# Altium footprint library EIA.QFN.PcbLib: 19 footprints (part 1 of 2)
Each footprint in its own frame and in the unit in brackets; x right, y up, seen from the top. Pads: shape width x height; smd on the part's side, far side on the other; paste and mask are expansions set on the pad; w line width, h text height; cw(c..) or ccw(c..) is an arc to the next point about the centre after c.
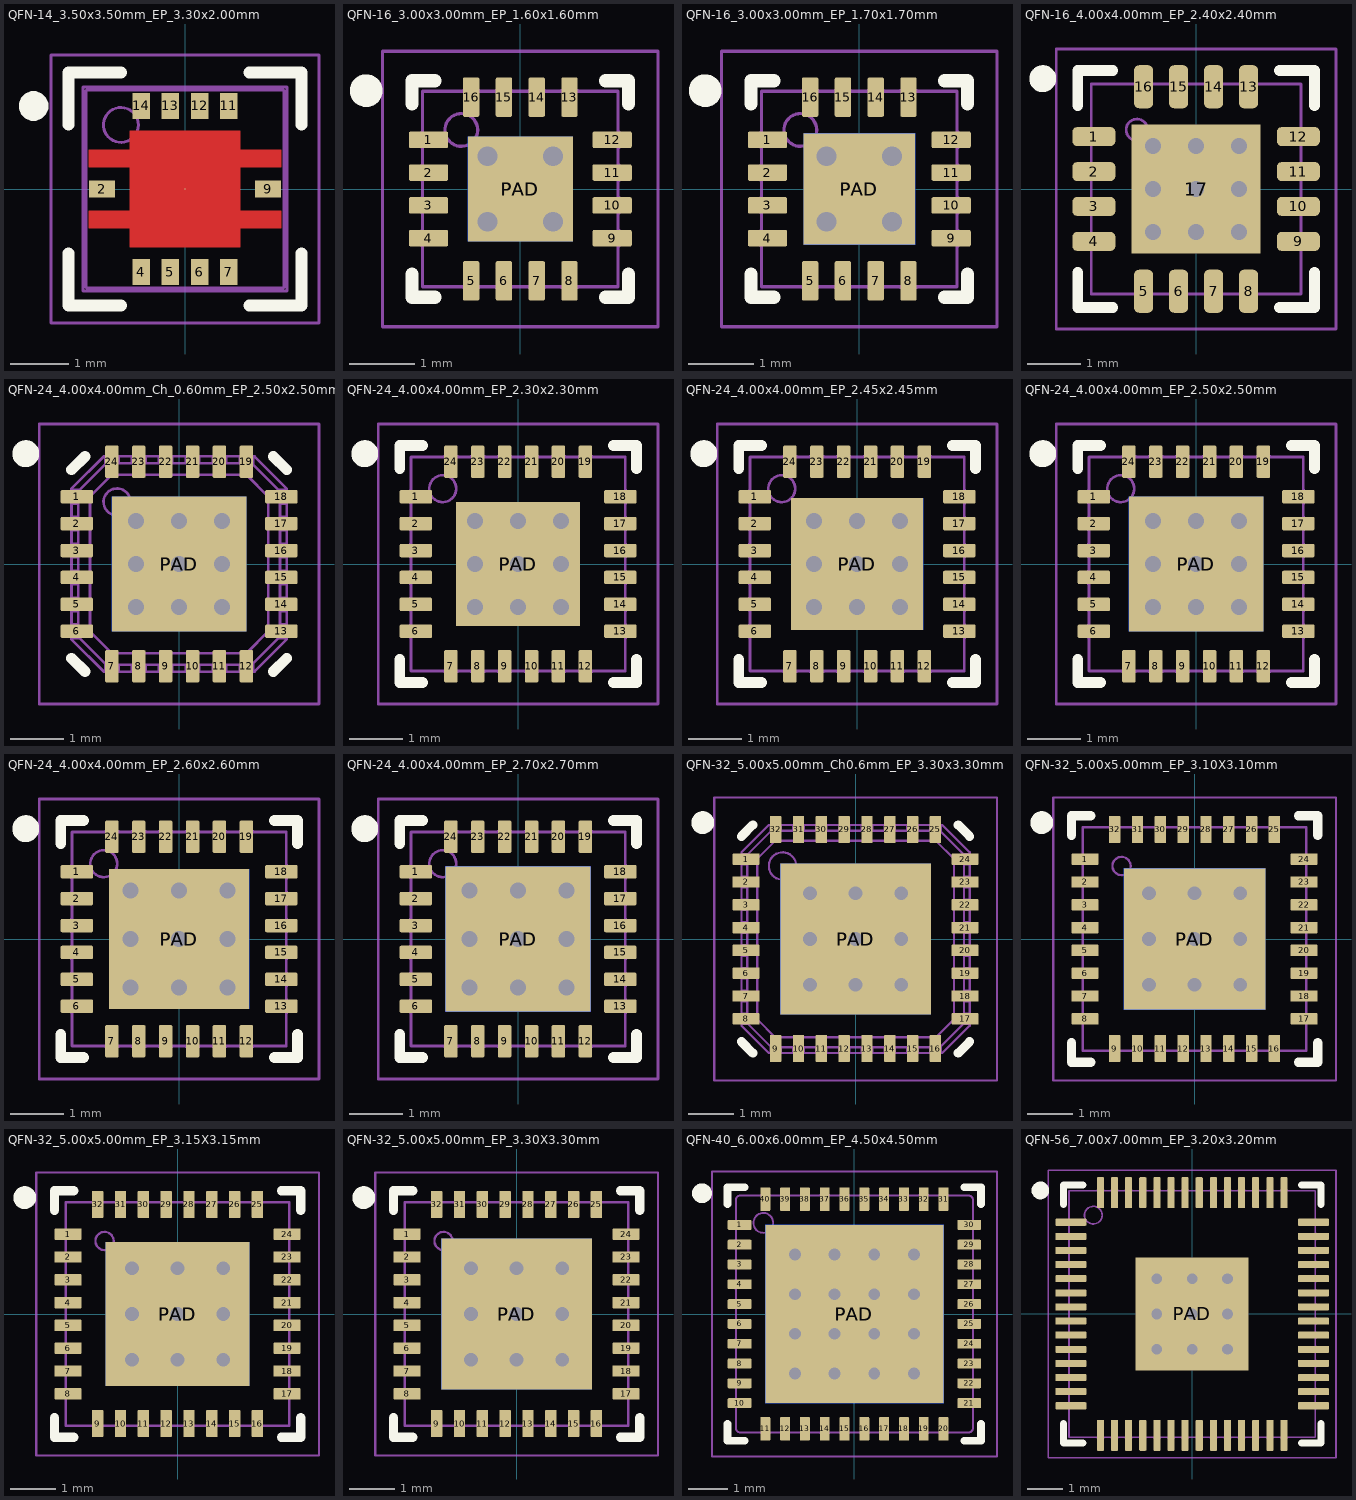
[diagram p0: the footprints below, top view; thin cyan lines are the x and y axes]

## QFN-14_3.50x3.50mm_EP_3.30x2.00mm [mm] "QFN, 14-Leads, Body 3.50x3.50mm, Thermal Pad 3.30x2.00mm"
height 1.64
pads (11):
  rect 0.45x0.3 smd mask+0.1: 2(-1.425,0) 9(1.425,0)
  rect 0.3x0.45 smd mask+0.1: 4(-0.75,-1.425) 5(-0.25,-1.425) 6(0.25,-1.425) 7(0.75,-1.425) 11(0.75,1.425) 12(0.25,1.425) 13(-0.25,1.425) 14(-0.75,1.425)
  round 0.025 smd mask+0.1: PAD(0,0)
Top Layer:
  region: -0.95,-1 -0.95,-0.675 -1.65,-0.675 -1.65,-0.375 -0.95,-0.375 -0.95,0.375 -1.65,0.375 -1.65,0.675 -0.95,0.675 -0.95,1 0.95,1 0.95,0.675 1.65,0.675 1.65,0.375 0.95,0.375 0.95,-0.375 1.65,-0.375 1.65,-0.675 0.95,-0.675 0.95,-1
Top Overlay:
  region: -2.6,1.175 -2.65,1.175 -2.742,1.213 -2.812,1.283 -2.85,1.375 -2.85,1.425 -2.85,1.475 -2.812,1.567 -2.742,1.637 -2.65,1.675 -2.6,1.675 -2.55,1.675 -2.458,1.637 -2.388,1.567 -2.35,1.475 -2.35,1.425 -2.35,1.375 -2.388,1.283 -2.458,1.213 -2.55,1.175
  lines w0.2: -2,-1.1 -2,-2 -1.1,-2 ; -2,1.1 -2,2 -1.1,2 ; 1.1,-2 2,-2 2,-1.1 ; 1.1,2 2,2 2,1.1
Mechanical 1:
  circle w0.05: c-1.1,1.1 r0.3
  lines w0.05: -1.75,-1.75 -1.75,1.75 1.75,1.75 1.75,-1.75 -1.75,-1.75 ; -1.7,-1.675 ccw(c-1.675,-1.675) -1.675,-1.7 1.675,-1.7 ccw(c1.675,-1.675) 1.7,-1.675 1.7,1.675 ccw(c1.675,1.675) 1.675,1.7 -1.675,1.7 ccw(c-1.675,1.675) -1.7,1.675 -1.7,-1.675
Mechanical 15:
  lines w0.05: -2.3,-2.3 -2.3,2.3 2.3,2.3 2.3,-2.3 -2.3,-2.3
  lines w0.1: -0.5,0 0.5,0 ; 0,-0.5 0,0.5
3D body "QFN-14_3.50x3.50mm_EP_3.30x2.00mm.STEP": height 1.64, standoff 0, extent -1.75,-1.75 1.75,1.75

## QFN-16_3.00x3.00mm_EP_1.60x1.60mm [mm] "QFN, 16-Leads, Body 3.00x3.00mm, Pitch 0.50mm, Thermal Pad 1.60x1.60mm, IPC Medium Density"
height 0.85
pads (18):
  rrect20% 0.6x0.25 smd: 1(-1.4,0.75) 2(-1.4,0.25) 3(-1.4,-0.25) 4(-1.4,-0.75) 9(1.4,-0.75) 10(1.4,-0.25) 11(1.4,0.25) 12(1.4,0.75)
  rrect20% 0.25x0.6 smd: 5(-0.75,-1.4) 6(-0.25,-1.4) 7(0.25,-1.4) 8(0.75,-1.4) 13(0.75,1.4) 14(0.25,1.4) 15(-0.25,1.4) 16(-0.75,1.4)
  rect 1.6x1.6 smd: PAD(0,0)
  rect 1.6x1.6 smd far side paste-2539.97: PAD(0,0)
via -0.5,0.5 diameter 0.6 hole 0.3
via -0.5,-0.5 diameter 0.6 hole 0.3
via 0.5,-0.5 diameter 0.6 hole 0.3
via 0.5,0.5 diameter 0.6 hole 0.3
Top Overlay:
  circle w0.25: c-2.35,1.5 r0.125
  lines w0.2: -1.65,-1.3 -1.65,-1.65 -1.3,-1.65 ; -1.65,1.3 -1.65,1.65 -1.3,1.65 ; 1.3,-1.65 1.65,-1.65 1.65,-1.3 ; 1.3,1.65 1.65,1.65 1.65,1.3
Mechanical 1:
  circle w0.05: c-0.9,0.9 r0.25
  lines w0.05: -1.49,-0.875 -1.5,-0.875 -1.5,-0.625 -1.49,-0.625 ; -1.49,-0.375 -1.5,-0.375 -1.5,-0.125 -1.49,-0.125 ; -1.49,0.125 -1.5,0.125 -1.5,0.375 -1.49,0.375 ; -1.49,0.625 -1.5,0.625 -1.5,0.875 -1.49,0.875 ; -0.875,-1.49 -0.875,-1.5 -0.625,-1.5 -0.625,-1.49 ; -0.875,1.49 -0.875,1.5 -0.625,1.5 -0.625,1.49 ; -0.375,-1.49 -0.375,-1.5 -0.125,-1.5 -0.125,-1.49 ; -0.375,1.49 -0.375,1.5 -0.125,1.5 -0.125,1.49 ; 0.125,-1.49 0.125,-1.5 0.375,-1.5 0.375,-1.49 ; 0.125,1.49 0.125,1.5 0.375,1.5 0.375,1.49 ; 0.625,-1.49 0.625,-1.5 0.875,-1.5 0.875,-1.49 ; 0.625,1.49 0.625,1.5 0.875,1.5 0.875,1.49 ; 1.49,-0.875 1.5,-0.875 1.5,-0.625 1.49,-0.625 ; 1.49,-0.375 1.5,-0.375 1.5,-0.125 1.49,-0.125 ; 1.49,0.125 1.5,0.125 1.5,0.375 1.49,0.375 ; 1.49,0.625 1.5,0.625 1.5,0.875 1.49,0.875 ; -1.49,-1.49 1.49,-1.49 1.49,1.49 -1.49,1.49 -1.49,-1.49
Mechanical 15:
  lines w0.05: -2.1,-2.1 -2.1,2.1 2.1,2.1 2.1,-2.1 -2.1,-2.1
  lines w0.1: -0.5,0 0.5,0 ; 0,-0.5 0,0.5
3D body "QFN-16-1EP_3x3mm_P0.5mm_EP1.8x1.8mm.step": height 0.77, standoff 0, extent -1.5,-1.5 1.5,1.5

## QFN-16_3.00x3.00mm_EP_1.70x1.70mm [mm] "QFN, 16-Leads, Body 3.00x3.00mm, Pitch 0.50mm, Thermal Pad 1.70x1.70mm, IPC Medium Density"
height 0.85
pads (18):
  rrect20% 0.6x0.25 smd: 1(-1.4,0.75) 2(-1.4,0.25) 3(-1.4,-0.25) 4(-1.4,-0.75) 9(1.4,-0.75) 10(1.4,-0.25) 11(1.4,0.25) 12(1.4,0.75)
  rrect20% 0.25x0.6 smd: 5(-0.75,-1.4) 6(-0.25,-1.4) 7(0.25,-1.4) 8(0.75,-1.4) 13(0.75,1.4) 14(0.25,1.4) 15(-0.25,1.4) 16(-0.75,1.4)
  rect 1.7x1.7 smd: PAD(0,0)
  rect 1.7x1.7 smd far side paste-2539.97: PAD(0,0)
via 0.5,0.5 diameter 0.6 hole 0.3
via 0.5,-0.5 diameter 0.6 hole 0.3
via -0.5,-0.5 diameter 0.6 hole 0.3
via -0.5,0.5 diameter 0.6 hole 0.3
Top Overlay:
  circle w0.25: c-2.35,1.5 r0.125
  lines w0.2: -1.65,-1.3 -1.65,-1.65 -1.3,-1.65 ; -1.65,1.3 -1.65,1.65 -1.3,1.65 ; 1.3,-1.65 1.65,-1.65 1.65,-1.3 ; 1.3,1.65 1.65,1.65 1.65,1.3
Mechanical 1:
  circle w0.05: c-0.9,0.9 r0.25
  lines w0.05: -1.49,-0.875 -1.5,-0.875 -1.5,-0.625 -1.49,-0.625 ; -1.49,-0.375 -1.5,-0.375 -1.5,-0.125 -1.49,-0.125 ; -1.49,0.125 -1.5,0.125 -1.5,0.375 -1.49,0.375 ; -1.49,0.625 -1.5,0.625 -1.5,0.875 -1.49,0.875 ; -0.875,-1.49 -0.875,-1.5 -0.625,-1.5 -0.625,-1.49 ; -0.875,1.49 -0.875,1.5 -0.625,1.5 -0.625,1.49 ; -0.375,-1.49 -0.375,-1.5 -0.125,-1.5 -0.125,-1.49 ; -0.375,1.49 -0.375,1.5 -0.125,1.5 -0.125,1.49 ; 0.125,-1.49 0.125,-1.5 0.375,-1.5 0.375,-1.49 ; 0.125,1.49 0.125,1.5 0.375,1.5 0.375,1.49 ; 0.625,-1.49 0.625,-1.5 0.875,-1.5 0.875,-1.49 ; 0.625,1.49 0.625,1.5 0.875,1.5 0.875,1.49 ; 1.49,-0.875 1.5,-0.875 1.5,-0.625 1.49,-0.625 ; 1.49,-0.375 1.5,-0.375 1.5,-0.125 1.49,-0.125 ; 1.49,0.125 1.5,0.125 1.5,0.375 1.49,0.375 ; 1.49,0.625 1.5,0.625 1.5,0.875 1.49,0.875 ; -1.49,-1.49 -1.49,1.49 1.49,1.49 1.49,-1.49 -1.49,-1.49
Mechanical 15:
  lines w0.05: -2.1,-2.1 2.1,-2.1 2.1,2.1 -2.1,2.1 -2.1,-2.1
  lines w0.1: -0.5,0 0.5,0 ; 0,-0.5 0,0.5
3D body "QFN-16-1EP_3x3mm_P0.5mm_EP1.8x1.8mm.step": height 0.77, standoff 0, extent -1.5,-1.5 1.5,1.5

## QFN-16_4.00x4.00mm_EP_2.40x2.40mm [mm] "QFN, 16-Leads, Body 4.00x4.00mm, Pitch 0.65mm, Thermal Pad 2.40x2.40mm, IPC Medium Density"
height 1
pads (17):
  rrect50% 0.8x0.35 smd: 1(-1.9,0.975) 2(-1.9,0.325) 3(-1.9,-0.325) 4(-1.9,-0.975) 9(1.9,-0.975) 10(1.9,-0.325) 11(1.9,0.325) 12(1.9,0.975)
  rrect50% 0.35x0.8 smd: 5(-0.975,-1.9) 6(-0.325,-1.9) 7(0.325,-1.9) 8(0.975,-1.9) 13(0.975,1.9) 14(0.325,1.9) 15(-0.325,1.9) 16(-0.975,1.9)
  rect 2.4x2.4 smd: 17(0,0)
via 0,0 diameter 0.6 hole 0.3
via -0.8,0.8 diameter 0.6 hole 0.3
via 0,0.8 diameter 0.6 hole 0.3
via 0.8,0.8 diameter 0.6 hole 0.3
via 0.8,0 diameter 0.6 hole 0.3
via 0,-0.8 diameter 0.6 hole 0.3
via -0.8,-0.8 diameter 0.6 hole 0.3
via 0.8,-0.8 diameter 0.6 hole 0.3
via -0.8,0 diameter 0.6 hole 0.3
Top Overlay:
  circle w0.25: c-2.85,2.05 r0.125
  lines w0.2: -2.2,-1.55 -2.2,-2.2 -1.55,-2.2 ; -2.2,1.55 -2.2,2.2 -1.55,2.2 ; 1.55,-2.2 2.2,-2.2 2.2,-1.55 ; 1.55,2.2 2.2,2.2 2.2,1.55
Mechanical 1:
  circle w0.05: c-1.1,1.1 r0.2
  lines w0.05: -1.95,-1.08 -2,-1.08 -2,-0.87 -1.95,-0.87 ; -1.95,-0.43 -2,-0.43 -2,-0.22 -1.95,-0.22 ; -1.95,0.22 -2,0.22 -2,0.43 -1.95,0.43 ; -1.95,0.87 -2,0.87 -2,1.08 -1.95,1.08 ; -1.08,-1.95 -1.08,-2 -0.87,-2 -0.87,-1.95 ; -1.08,1.95 -1.08,2 -0.87,2 -0.87,1.95 ; -0.43,-1.95 -0.43,-2 -0.22,-2 -0.22,-1.95 ; -0.43,1.95 -0.43,2 -0.22,2 -0.22,1.95 ; 0.22,-1.95 0.22,-2 0.43,-2 0.43,-1.95 ; 0.22,1.95 0.22,2 0.43,2 0.43,1.95 ; 0.87,-1.95 0.87,-2 1.08,-2 1.08,-1.95 ; 0.87,1.95 0.87,2 1.08,2 1.08,1.95 ; 1.95,-1.08 2,-1.08 2,-0.87 1.95,-0.87 ; 1.95,-0.43 2,-0.43 2,-0.22 1.95,-0.22 ; 1.95,0.22 2,0.22 2,0.43 1.95,0.43 ; 1.95,0.87 2,0.87 2,1.08 1.95,1.08 ; -1.95,-1.95 -1.95,1.95 1.95,1.95 1.95,-1.95 -1.95,-1.95
Mechanical 15:
  lines w0.05: -2.6,-2.6 2.6,-2.6 2.6,2.6 -2.6,2.6 -2.6,-2.6
  lines w0.1: -0.5,0 0.5,0 ; 0,-0.5 0,0.5
3D body "QFN-16-1EP_4x4mm_P0.65mm_EP2.1x2.1mm.step": height 1.1, standoff 0, extent -2,-2 2,2

## QFN-24_4.00x4.00mm_Ch_0.60mm_EP_2.50x2.50mm [mm] "QFN, 24-Leads, Body 4.00x4.00mm, Pitch 0.50mm, Thermal Pad 2.50x2.50mm, IPC Medium Density"
height 0.8
pads (26):
  rrect20% 0.6x0.25 smd: 1(-1.9,1.25) 2(-1.9,0.75) 3(-1.9,0.25) 4(-1.9,-0.25) 5(-1.9,-0.75) 6(-1.9,-1.25) 13(1.9,-1.25) 14(1.9,-0.75) 15(1.9,-0.25) 16(1.9,0.25) 17(1.9,0.75) 18(1.9,1.25)
  rrect20% 0.25x0.6 smd: 7(-1.25,-1.9) 8(-0.75,-1.9) 9(-0.25,-1.9) 10(0.25,-1.9) 11(0.75,-1.9) 12(1.25,-1.9) 19(1.25,1.9) 20(0.75,1.9) 21(0.25,1.9) 22(-0.25,1.9) 23(-0.75,1.9) 24(-1.25,1.9)
  rect 2.5x2.5 smd paste-2539.97: PAD(0,0)
  rect 2.5x2.5 smd far side paste-2539.97: PAD(0,0)
via 0,-0.8 diameter 0.6 hole 0.3
via 0.8,-0.8 diameter 0.6 hole 0.3
via 0.8,0 diameter 0.6 hole 0.3
via 0.8,0.8 diameter 0.6 hole 0.3
via 0,0.8 diameter 0.6 hole 0.3
via -0.8,0.8 diameter 0.6 hole 0.3
via -0.8,0 diameter 0.6 hole 0.3
via -0.8,-0.8 diameter 0.6 hole 0.3
via 0,0 diameter 0.6 hole 0.3
Top Overlay:
  circle w0.25: c-2.85,2.05 r0.125
  lines w0.2: -2,-1.75 -1.75,-2 ; -2,1.75 -1.75,2 ; 1.75,-2 2,-1.75 ; 1.75,2 2,1.75
Mechanical 1:
  lines w0.05: -2,-1.375 -1.848,-1.375 ; -2,-1.125 -1.875,-1.125 ; -2,-0.875 -1.875,-0.875 ; -2,-0.625 -1.875,-0.625 ; -2,-0.375 -1.875,-0.375 ; -2,-0.125 -1.875,-0.125 ; -2,0.125 -1.875,0.125 ; -2,0.375 -1.875,0.375 ; -2,0.625 -1.875,0.625 ; -2,0.875 -1.875,0.875 ; -2,1.125 -1.875,1.125 ; -2,1.375 -1.848,1.375 ; -1.375,-2 -1.375,-1.848 ; -1.375,1.848 -1.375,2 ; -1.125,-2 -1.125,-1.875 ; -1.125,1.875 -1.125,2 ; -0.875,-2 -0.875,-1.875 ; -0.875,1.875 -0.875,2 ; -0.625,-2 -0.625,-1.875 ; -0.625,1.875 -0.625,2 ; -0.375,-2 -0.375,-1.875 ; -0.375,1.875 -0.375,2 ; -0.125,-2 -0.125,-1.875 ; -0.125,1.875 -0.125,2 ; 0.125,-2 0.125,-1.875 ; 0.125,1.875 0.125,2 ; 0.375,-2 0.375,-1.875 ; 0.375,1.875 0.375,2 ; 0.625,-2 0.625,-1.875 ; 0.625,1.875 0.625,2 ; 0.875,-2 0.875,-1.875 ; 0.875,1.875 0.875,2 ; 1.125,-2 1.125,-1.875 ; 1.125,1.875 1.125,2 ; 1.375,-2 1.375,-1.848 ; 1.375,1.848 1.375,2 ; 1.848,-1.375 2,-1.375 ; 1.848,1.375 2,1.375 ; 1.875,-1.125 2,-1.125 ; 1.875,-0.875 2,-0.875 ; 1.875,-0.625 2,-0.625 ; 1.875,-0.375 2,-0.375 ; 1.875,-0.125 2,-0.125 ; 1.875,0.125 2,0.125 ; 1.875,0.375 2,0.375 ; 1.875,0.625 2,0.625 ; 1.875,0.875 2,0.875 ; 1.875,1.125 2,1.125 ; -1.875,-1.348 -1.656,-1.257 ; -1.875,-1.348 -1.348,-1.875 ; -1.875,-1.348 -1.875,1.348 ; -1.875,1.348 -1.656,1.257 ; -1.875,1.348 -1.348,1.875 ; -1.656,-1.257 -1.257,-1.656 ; -1.656,-1.257 -1.656,1.257 ; -1.656,1.257 -1.257,1.656 ; -1.348,-1.875 -1.257,-1.656 ; -1.348,-1.875 1.348,-1.875 ; -1.348,1.875 -1.257,1.656 ; -1.348,1.875 1.348,1.875 ; -1.257,-1.656 1.257,-1.656 ; -1.257,1.656 1.257,1.656 ; 1.257,-1.656 1.348,-1.875 ; 1.257,-1.656 1.656,-1.257 ; 1.257,1.656 1.348,1.875 ; 1.257,1.656 1.656,1.257 ; 1.348,-1.875 1.875,-1.348 ; 1.348,1.875 1.875,1.348 ; 1.656,-1.257 1.656,1.257 ; 1.656,-1.257 1.875,-1.348 ; 1.656,1.257 1.875,1.348 ; 1.875,-1.348 1.875,1.348 ; -2,-1.4 -2,1.4 -1.4,2 1.4,2 2,1.4 2,-1.4 1.4,-2 -1.4,-2 -2,-1.4 ; -1.404,1.154 ccw(c-1.154,1.154) -1.341,0.988 ccw(c-1.155,1.152) -1.33,0.977 ccw(c-1.154,1.154) -1.169,0.904 ccw(c-1.154,1.152) -1.154,0.904 ccw(c-1.154,1.154) -0.988,0.966 ccw(c-1.152,1.152) -0.977,0.977 ccw(c-1.154,1.154) -0.93,1.043 ccw(c-1.152,1.153) -0.922,1.059 ccw(c-1.155,1.154) -0.904,1.136 ccw(c-1.152,1.154) -0.904,1.154 ccw(c-1.154,1.154) -0.966,1.319 ccw(c-1.152,1.155) -0.977,1.33 ccw(c-1.154,1.154) -1.138,1.403 ccw(c-1.154,1.156) -1.154,1.404 ccw(c-1.154,1.154) -1.319,1.341 ccw(c-1.155,1.155) -1.33,1.33 ccw(c-1.154,1.154) -1.403,1.169 ccw(c-1.156,1.154) -1.404,1.154
Mechanical 15:
  lines w0.05: -2.6,-2.6 2.6,-2.6 2.6,2.6 -2.6,2.6 -2.6,-2.6
  lines w0.1: -0.5,0 0.5,0 ; 0,-0.5 0,0.5
3D body "QFN-24_4.00x4.00mm_Ch_0.60mm_EP_2.50x2.50mm.STEP": height 0.85, standoff 0, extent -2,-2 2,2

## QFN-24_4.00x4.00mm_EP_2.30x2.30mm [mm] "QFN, 24-Leads, Body 4.00x4.00mm, Pitch 0.50mm, Thermal Pad 2.30x2.30mm, IPC Medium Density"
height 0.8
pads (26):
  rrect20% 0.6x0.25 smd: 1(-1.9,1.25) 2(-1.9,0.75) 3(-1.9,0.25) 4(-1.9,-0.25) 5(-1.9,-0.75) 6(-1.9,-1.25) 13(1.9,-1.25) 14(1.9,-0.75) 15(1.9,-0.25) 16(1.9,0.25) 17(1.9,0.75) 18(1.9,1.25)
  rrect20% 0.25x0.6 smd: 7(-1.25,-1.9) 8(-0.75,-1.9) 9(-0.25,-1.9) 10(0.25,-1.9) 11(0.75,-1.9) 12(1.25,-1.9) 19(1.25,1.9) 20(0.75,1.9) 21(0.25,1.9) 22(-0.25,1.9) 23(-0.75,1.9) 24(-1.25,1.9)
  rect 2.3x2.3 smd: PAD(0,0)
  rect 2.3x2.3 smd far side paste-2539.97: PAD(0,0)
via -0.8,0 diameter 0.6 hole 0.3
via 0.8,-0.8 diameter 0.6 hole 0.3
via -0.8,-0.8 diameter 0.6 hole 0.3
via 0,-0.8 diameter 0.6 hole 0.3
via 0.8,0 diameter 0.6 hole 0.3
via 0.8,0.8 diameter 0.6 hole 0.3
via 0,0.8 diameter 0.6 hole 0.3
via -0.8,0.8 diameter 0.6 hole 0.3
via 0,0 diameter 0.6 hole 0.3
Top Overlay:
  circle w0.25: c-2.85,2.05 r0.125
  lines w0.2: -2.2,-1.775 -2.2,-2.2 -1.775,-2.2 ; -2.2,1.775 -2.2,2.2 -1.775,2.2 ; 1.775,-2.2 2.2,-2.2 2.2,-1.775 ; 1.775,2.2 2.2,2.2 2.2,1.775
Mechanical 1:
  circle w0.05: c-1.4,1.4 r0.25
  lines w0.05: -1.99,-1.375 -2,-1.375 -2,-1.125 -1.99,-1.125 ; -1.99,-0.875 -2,-0.875 -2,-0.625 -1.99,-0.625 ; -1.99,-0.375 -2,-0.375 -2,-0.125 -1.99,-0.125 ; -1.99,0.125 -2,0.125 -2,0.375 -1.99,0.375 ; -1.99,0.625 -2,0.625 -2,0.875 -1.99,0.875 ; -1.99,1.125 -2,1.125 -2,1.375 -1.99,1.375 ; -1.375,-1.99 -1.375,-2 -1.125,-2 -1.125,-1.99 ; -1.375,1.99 -1.375,2 -1.125,2 -1.125,1.99 ; -0.875,-1.99 -0.875,-2 -0.625,-2 -0.625,-1.99 ; -0.875,1.99 -0.875,2 -0.625,2 -0.625,1.99 ; -0.375,-1.99 -0.375,-2 -0.125,-2 -0.125,-1.99 ; -0.375,1.99 -0.375,2 -0.125,2 -0.125,1.99 ; 0.125,-1.99 0.125,-2 0.375,-2 0.375,-1.99 ; 0.125,1.99 0.125,2 0.375,2 0.375,1.99 ; 0.625,-1.99 0.625,-2 0.875,-2 0.875,-1.99 ; 0.625,1.99 0.625,2 0.875,2 0.875,1.99 ; 1.125,-1.99 1.125,-2 1.375,-2 1.375,-1.99 ; 1.125,1.99 1.125,2 1.375,2 1.375,1.99 ; 1.99,-1.375 2,-1.375 2,-1.125 1.99,-1.125 ; 1.99,-0.875 2,-0.875 2,-0.625 1.99,-0.625 ; 1.99,-0.375 2,-0.375 2,-0.125 1.99,-0.125 ; 1.99,0.125 2,0.125 2,0.375 1.99,0.375 ; 1.99,0.625 2,0.625 2,0.875 1.99,0.875 ; 1.99,1.125 2,1.125 2,1.375 1.99,1.375 ; -1.99,-1.99 1.99,-1.99 1.99,1.99 -1.99,1.99 -1.99,-1.99
Mechanical 15:
  lines w0.05: -2.6,-2.6 2.6,-2.6 2.6,2.6 -2.6,2.6 -2.6,-2.6
  lines w0.1: -0.5,0 0.5,0 ; 0,-0.5 0,0.5
3D body "QFN-24-1EP_4x4mm_P0.5mm_EP2.6x2.6mm.step": height 0.77, standoff 0, extent -2,-2 2,2

## QFN-24_4.00x4.00mm_EP_2.45x2.45mm [mm] "QFN, 24-Leads, Body 4.00x4.00mm, Pitch 0.50mm, Thermal Pad 2.45x2.45mm, IPC Medium Density"
height 0.8
pads (26):
  rrect20% 0.6x0.25 smd: 1(-1.9,1.25) 2(-1.9,0.75) 3(-1.9,0.25) 4(-1.9,-0.25) 5(-1.9,-0.75) 6(-1.9,-1.25) 13(1.9,-1.25) 14(1.9,-0.75) 15(1.9,-0.25) 16(1.9,0.25) 17(1.9,0.75) 18(1.9,1.25)
  rrect20% 0.25x0.6 smd: 7(-1.25,-1.9) 8(-0.75,-1.9) 9(-0.25,-1.9) 10(0.25,-1.9) 11(0.75,-1.9) 12(1.25,-1.9) 19(1.25,1.9) 20(0.75,1.9) 21(0.25,1.9) 22(-0.25,1.9) 23(-0.75,1.9) 24(-1.25,1.9)
  rect 2.45x2.45 smd: PAD(0,0)
  rect 2.45x2.45 smd far side paste-2539.97: PAD(0,0)
via -0.8,0 diameter 0.6 hole 0.3
via 0.8,-0.8 diameter 0.6 hole 0.3
via -0.8,-0.8 diameter 0.6 hole 0.3
via 0,-0.8 diameter 0.6 hole 0.3
via 0.8,0 diameter 0.6 hole 0.3
via 0.8,0.8 diameter 0.6 hole 0.3
via 0,0.8 diameter 0.6 hole 0.3
via -0.8,0.8 diameter 0.6 hole 0.3
via 0,0 diameter 0.6 hole 0.3
Top Overlay:
  circle w0.25: c-2.85,2.05 r0.125
  lines w0.2: -2.2,-1.775 -2.2,-2.2 -1.775,-2.2 ; -2.2,1.775 -2.2,2.2 -1.775,2.2 ; 1.775,-2.2 2.2,-2.2 2.2,-1.775 ; 1.775,2.2 2.2,2.2 2.2,1.775
Mechanical 1:
  circle w0.05: c-1.4,1.4 r0.25
  lines w0.05: -1.99,-1.375 -2,-1.375 -2,-1.125 -1.99,-1.125 ; -1.99,-0.875 -2,-0.875 -2,-0.625 -1.99,-0.625 ; -1.99,-0.375 -2,-0.375 -2,-0.125 -1.99,-0.125 ; -1.99,0.125 -2,0.125 -2,0.375 -1.99,0.375 ; -1.99,0.625 -2,0.625 -2,0.875 -1.99,0.875 ; -1.99,1.125 -2,1.125 -2,1.375 -1.99,1.375 ; -1.375,-1.99 -1.375,-2 -1.125,-2 -1.125,-1.99 ; -1.375,1.99 -1.375,2 -1.125,2 -1.125,1.99 ; -0.875,-1.99 -0.875,-2 -0.625,-2 -0.625,-1.99 ; -0.875,1.99 -0.875,2 -0.625,2 -0.625,1.99 ; -0.375,-1.99 -0.375,-2 -0.125,-2 -0.125,-1.99 ; -0.375,1.99 -0.375,2 -0.125,2 -0.125,1.99 ; 0.125,-1.99 0.125,-2 0.375,-2 0.375,-1.99 ; 0.125,1.99 0.125,2 0.375,2 0.375,1.99 ; 0.625,-1.99 0.625,-2 0.875,-2 0.875,-1.99 ; 0.625,1.99 0.625,2 0.875,2 0.875,1.99 ; 1.125,-1.99 1.125,-2 1.375,-2 1.375,-1.99 ; 1.125,1.99 1.125,2 1.375,2 1.375,1.99 ; 1.99,-1.375 2,-1.375 2,-1.125 1.99,-1.125 ; 1.99,-0.875 2,-0.875 2,-0.625 1.99,-0.625 ; 1.99,-0.375 2,-0.375 2,-0.125 1.99,-0.125 ; 1.99,0.125 2,0.125 2,0.375 1.99,0.375 ; 1.99,0.625 2,0.625 2,0.875 1.99,0.875 ; 1.99,1.125 2,1.125 2,1.375 1.99,1.375 ; -1.99,-1.99 1.99,-1.99 1.99,1.99 -1.99,1.99 -1.99,-1.99
Mechanical 15:
  lines w0.05: -2.6,-2.6 2.6,-2.6 2.6,2.6 -2.6,2.6 -2.6,-2.6
  lines w0.1: -0.5,0 0.5,0 ; 0,-0.5 0,0.5
3D body "QFN-24-1EP_4x4mm_P0.5mm_EP2.6x2.6mm.step": height 0.77, standoff 0, extent -2,-2 2,2

## QFN-24_4.00x4.00mm_EP_2.50x2.50mm [mm] "QFN, 24-Leads, Body 4.00x4.00mm, Pitch 0.50mm, Thermal Pad 2.50x2.50mm, IPC Medium Density"
height 0.8
pads (26):
  rrect20% 0.6x0.25 smd: 1(-1.9,1.25) 2(-1.9,0.75) 3(-1.9,0.25) 4(-1.9,-0.25) 5(-1.9,-0.75) 6(-1.9,-1.25) 13(1.9,-1.25) 14(1.9,-0.75) 15(1.9,-0.25) 16(1.9,0.25) 17(1.9,0.75) 18(1.9,1.25)
  rrect20% 0.25x0.6 smd: 7(-1.25,-1.9) 8(-0.75,-1.9) 9(-0.25,-1.9) 10(0.25,-1.9) 11(0.75,-1.9) 12(1.25,-1.9) 19(1.25,1.9) 20(0.75,1.9) 21(0.25,1.9) 22(-0.25,1.9) 23(-0.75,1.9) 24(-1.25,1.9)
  rect 2.5x2.5 smd paste-2539.97: PAD(0,0)
  rect 2.5x2.5 smd far side paste-2539.97: PAD(0,0)
via 0,0 diameter 0.6 hole 0.3
via -0.8,-0.8 diameter 0.6 hole 0.3
via -0.8,0 diameter 0.6 hole 0.3
via -0.8,0.8 diameter 0.6 hole 0.3
via 0,0.8 diameter 0.6 hole 0.3
via 0.8,0.8 diameter 0.6 hole 0.3
via 0.8,0 diameter 0.6 hole 0.3
via 0.8,-0.8 diameter 0.6 hole 0.3
via 0,-0.8 diameter 0.6 hole 0.3
Top Overlay:
  circle w0.25: c-2.85,2.05 r0.125
  lines w0.2: -2.2,-1.775 -2.2,-2.2 -1.775,-2.2 ; -2.2,1.775 -2.2,2.2 -1.775,2.2 ; 1.775,-2.2 2.2,-2.2 2.2,-1.775 ; 1.775,2.2 2.2,2.2 2.2,1.775
Mechanical 1:
  circle w0.05: c-1.4,1.4 r0.25
  lines w0.05: -1.99,-1.375 -2,-1.375 -2,-1.125 -1.99,-1.125 ; -1.99,-0.875 -2,-0.875 -2,-0.625 -1.99,-0.625 ; -1.99,-0.375 -2,-0.375 -2,-0.125 -1.99,-0.125 ; -1.99,0.125 -2,0.125 -2,0.375 -1.99,0.375 ; -1.99,0.625 -2,0.625 -2,0.875 -1.99,0.875 ; -1.99,1.125 -2,1.125 -2,1.375 -1.99,1.375 ; -1.375,-1.99 -1.375,-2 -1.125,-2 -1.125,-1.99 ; -1.375,1.99 -1.375,2 -1.125,2 -1.125,1.99 ; -0.875,-1.99 -0.875,-2 -0.625,-2 -0.625,-1.99 ; -0.875,1.99 -0.875,2 -0.625,2 -0.625,1.99 ; -0.375,-1.99 -0.375,-2 -0.125,-2 -0.125,-1.99 ; -0.375,1.99 -0.375,2 -0.125,2 -0.125,1.99 ; 0.125,-1.99 0.125,-2 0.375,-2 0.375,-1.99 ; 0.125,1.99 0.125,2 0.375,2 0.375,1.99 ; 0.625,-1.99 0.625,-2 0.875,-2 0.875,-1.99 ; 0.625,1.99 0.625,2 0.875,2 0.875,1.99 ; 1.125,-1.99 1.125,-2 1.375,-2 1.375,-1.99 ; 1.125,1.99 1.125,2 1.375,2 1.375,1.99 ; 1.99,-1.375 2,-1.375 2,-1.125 1.99,-1.125 ; 1.99,-0.875 2,-0.875 2,-0.625 1.99,-0.625 ; 1.99,-0.375 2,-0.375 2,-0.125 1.99,-0.125 ; 1.99,0.125 2,0.125 2,0.375 1.99,0.375 ; 1.99,0.625 2,0.625 2,0.875 1.99,0.875 ; 1.99,1.125 2,1.125 2,1.375 1.99,1.375 ; -1.99,-1.99 1.99,-1.99 1.99,1.99 -1.99,1.99 -1.99,-1.99
Mechanical 15:
  lines w0.05: -2.6,-2.6 -2.6,2.6 2.6,2.6 2.6,-2.6 -2.6,-2.6
  lines w0.1: -0.5,0 0.5,0 ; 0,-0.5 0,0.5
3D body "QFN-24-1EP_4x4mm_P0.5mm_EP2.6x2.6mm.step": height 0.77, standoff 0, extent -2,-2 2,2

## QFN-24_4.00x4.00mm_EP_2.60x2.60mm [mm] "QFN, 24-Leads, Body 4.00x4.00mm, Pitch 0.50mm, Thermal Pad 2.60x2.60mm, IPC Medium Density"
height 0.95
pads (26):
  rrect20% 0.6x0.25 smd: 1(-1.9,1.25) 2(-1.9,0.75) 3(-1.9,0.25) 4(-1.9,-0.25) 5(-1.9,-0.75) 6(-1.9,-1.25) 13(1.9,-1.25) 14(1.9,-0.75) 15(1.9,-0.25) 16(1.9,0.25) 17(1.9,0.75) 18(1.9,1.25)
  rrect20% 0.25x0.6 smd: 7(-1.25,-1.9) 8(-0.75,-1.9) 9(-0.25,-1.9) 10(0.25,-1.9) 11(0.75,-1.9) 12(1.25,-1.9) 19(1.25,1.9) 20(0.75,1.9) 21(0.25,1.9) 22(-0.25,1.9) 23(-0.75,1.9) 24(-1.25,1.9)
  rect 2.6x2.6 smd paste-2539.97: PAD(0,0)
  rect 2.6x2.6 smd far side paste-2539.97: PAD(0,0)
via 0,0 diameter 0.6 hole 0.3
via -0.9,0 diameter 0.6 hole 0.3
via -0.9,0.9 diameter 0.6 hole 0.3
via 0,0.9 diameter 0.6 hole 0.3
via 0.9,0.9 diameter 0.6 hole 0.3
via 0.9,0 diameter 0.6 hole 0.3
via 0.9,-0.9 diameter 0.6 hole 0.3
via 0,-0.9 diameter 0.6 hole 0.3
via -0.9,-0.9 diameter 0.6 hole 0.3
Top Overlay:
  circle w0.25: c-2.85,2.05 r0.125
  lines w0.2: -2.2,-1.775 -2.2,-2.2 -1.775,-2.2 ; -2.2,1.775 -2.2,2.2 -1.775,2.2 ; 1.775,-2.2 2.2,-2.2 2.2,-1.775 ; 1.775,2.2 2.2,2.2 2.2,1.775
Mechanical 1:
  circle w0.05: c-1.4,1.4 r0.25
  lines w0.05: -1.99,-1.375 -2,-1.375 -2,-1.125 -1.99,-1.125 ; -1.99,-0.875 -2,-0.875 -2,-0.625 -1.99,-0.625 ; -1.99,-0.375 -2,-0.375 -2,-0.125 -1.99,-0.125 ; -1.99,0.125 -2,0.125 -2,0.375 -1.99,0.375 ; -1.99,0.625 -2,0.625 -2,0.875 -1.99,0.875 ; -1.99,1.125 -2,1.125 -2,1.375 -1.99,1.375 ; -1.375,-1.99 -1.375,-2 -1.125,-2 -1.125,-1.99 ; -1.375,1.99 -1.375,2 -1.125,2 -1.125,1.99 ; -0.875,-1.99 -0.875,-2 -0.625,-2 -0.625,-1.99 ; -0.875,1.99 -0.875,2 -0.625,2 -0.625,1.99 ; -0.375,-1.99 -0.375,-2 -0.125,-2 -0.125,-1.99 ; -0.375,1.99 -0.375,2 -0.125,2 -0.125,1.99 ; 0.125,-1.99 0.125,-2 0.375,-2 0.375,-1.99 ; 0.125,1.99 0.125,2 0.375,2 0.375,1.99 ; 0.625,-1.99 0.625,-2 0.875,-2 0.875,-1.99 ; 0.625,1.99 0.625,2 0.875,2 0.875,1.99 ; 1.125,-1.99 1.125,-2 1.375,-2 1.375,-1.99 ; 1.125,1.99 1.125,2 1.375,2 1.375,1.99 ; 1.99,-1.375 2,-1.375 2,-1.125 1.99,-1.125 ; 1.99,-0.875 2,-0.875 2,-0.625 1.99,-0.625 ; 1.99,-0.375 2,-0.375 2,-0.125 1.99,-0.125 ; 1.99,0.125 2,0.125 2,0.375 1.99,0.375 ; 1.99,0.625 2,0.625 2,0.875 1.99,0.875 ; 1.99,1.125 2,1.125 2,1.375 1.99,1.375 ; -1.99,-1.99 -1.99,1.99 1.99,1.99 1.99,-1.99 -1.99,-1.99
Mechanical 15:
  lines w0.05: -2.6,-2.6 2.6,-2.6 2.6,2.6 -2.6,2.6 -2.6,-2.6
  lines w0.1: -0.5,0 0.5,0 ; 0,-0.5 0,0.5
3D body "QFN-24-1EP_4x4mm_P0.5mm_EP2.7x2.7mm.step": height 1.1, standoff 0, extent -2,-2 2,2

## QFN-24_4.00x4.00mm_EP_2.70x2.70mm [mm] "QFN, 24-Leads, Body 4.00x4.00mm, Pitch 0.50mm, Thermal Pad 2.70x2.70mm, IPC Medium Density"
height 0.95
pads (26):
  rrect20% 0.6x0.25 smd: 1(-1.9,1.25) 2(-1.9,0.75) 3(-1.9,0.25) 4(-1.9,-0.25) 5(-1.9,-0.75) 6(-1.9,-1.25) 13(1.9,-1.25) 14(1.9,-0.75) 15(1.9,-0.25) 16(1.9,0.25) 17(1.9,0.75) 18(1.9,1.25)
  rrect20% 0.25x0.6 smd: 7(-1.25,-1.9) 8(-0.75,-1.9) 9(-0.25,-1.9) 10(0.25,-1.9) 11(0.75,-1.9) 12(1.25,-1.9) 19(1.25,1.9) 20(0.75,1.9) 21(0.25,1.9) 22(-0.25,1.9) 23(-0.75,1.9) 24(-1.25,1.9)
  rect 2.7x2.7 smd paste-2539.97: PAD(0,0)
  rect 2.7x2.7 smd far side paste-2539.97: PAD(0,0)
via -0.9,-0.9 diameter 0.6 hole 0.3
via 0,-0.9 diameter 0.6 hole 0.3
via 0.9,-0.9 diameter 0.6 hole 0.3
via 0.9,0 diameter 0.6 hole 0.3
via 0.9,0.9 diameter 0.6 hole 0.3
via 0,0.9 diameter 0.6 hole 0.3
via -0.9,0.9 diameter 0.6 hole 0.3
via -0.9,0 diameter 0.6 hole 0.3
via 0,0 diameter 0.6 hole 0.3
Top Overlay:
  circle w0.25: c-2.85,2.05 r0.125
  lines w0.2: -2.2,-1.775 -2.2,-2.2 -1.775,-2.2 ; -2.2,1.775 -2.2,2.2 -1.775,2.2 ; 1.775,-2.2 2.2,-2.2 2.2,-1.775 ; 1.775,2.2 2.2,2.2 2.2,1.775
Mechanical 1:
  circle w0.05: c-1.4,1.4 r0.25
  lines w0.05: -1.99,-1.375 -2,-1.375 -2,-1.125 -1.99,-1.125 ; -1.99,-0.875 -2,-0.875 -2,-0.625 -1.99,-0.625 ; -1.99,-0.375 -2,-0.375 -2,-0.125 -1.99,-0.125 ; -1.99,0.125 -2,0.125 -2,0.375 -1.99,0.375 ; -1.99,0.625 -2,0.625 -2,0.875 -1.99,0.875 ; -1.99,1.125 -2,1.125 -2,1.375 -1.99,1.375 ; -1.375,-1.99 -1.375,-2 -1.125,-2 -1.125,-1.99 ; -1.375,1.99 -1.375,2 -1.125,2 -1.125,1.99 ; -0.875,-1.99 -0.875,-2 -0.625,-2 -0.625,-1.99 ; -0.875,1.99 -0.875,2 -0.625,2 -0.625,1.99 ; -0.375,-1.99 -0.375,-2 -0.125,-2 -0.125,-1.99 ; -0.375,1.99 -0.375,2 -0.125,2 -0.125,1.99 ; 0.125,-1.99 0.125,-2 0.375,-2 0.375,-1.99 ; 0.125,1.99 0.125,2 0.375,2 0.375,1.99 ; 0.625,-1.99 0.625,-2 0.875,-2 0.875,-1.99 ; 0.625,1.99 0.625,2 0.875,2 0.875,1.99 ; 1.125,-1.99 1.125,-2 1.375,-2 1.375,-1.99 ; 1.125,1.99 1.125,2 1.375,2 1.375,1.99 ; 1.99,-1.375 2,-1.375 2,-1.125 1.99,-1.125 ; 1.99,-0.875 2,-0.875 2,-0.625 1.99,-0.625 ; 1.99,-0.375 2,-0.375 2,-0.125 1.99,-0.125 ; 1.99,0.125 2,0.125 2,0.375 1.99,0.375 ; 1.99,0.625 2,0.625 2,0.875 1.99,0.875 ; 1.99,1.125 2,1.125 2,1.375 1.99,1.375 ; -1.99,-1.99 1.99,-1.99 1.99,1.99 -1.99,1.99 -1.99,-1.99
Mechanical 15:
  lines w0.05: -2.6,-2.6 -2.6,2.6 2.6,2.6 2.6,-2.6 -2.6,-2.6
  lines w0.1: -0.5,0 0.5,0 ; 0,-0.5 0,0.5
3D body "QFN-24-1EP_4x4mm_P0.5mm_EP2.7x2.7mm.step": height 1.1, standoff 0, extent -2,-2 2,2

## QFN-32_5.00x5.00mm_Ch0.6mm_EP_3.30x3.30mm [mm] "QFN, 32-Leads, Body 5.00x5.00mm, Pitch 0.50mm, Thermal Pad 3.30x3.30mm, IPC Medium Density"
height 1
pads (34):
  rrect20% 0.6x0.25 smd: 1(-2.4,1.75) 2(-2.4,1.25) 3(-2.4,0.75) 4(-2.4,0.25) 5(-2.4,-0.25) 6(-2.4,-0.75) 7(-2.4,-1.25) 8(-2.4,-1.75) 17(2.4,-1.75) 18(2.4,-1.25) 19(2.4,-0.75) 20(2.4,-0.25) 21(2.4,0.25) 22(2.4,0.75) 23(2.4,1.25) 24(2.4,1.75)
  rrect20% 0.25x0.6 smd: 9(-1.75,-2.4) 10(-1.25,-2.4) 11(-0.75,-2.4) 12(-0.25,-2.4) 13(0.25,-2.4) 14(0.75,-2.4) 15(1.25,-2.4) 16(1.75,-2.4) 25(1.75,2.4) 26(1.25,2.4) 27(0.75,2.4) 28(0.25,2.4) 29(-0.25,2.4) 30(-0.75,2.4) 31(-1.25,2.4) 32(-1.75,2.4)
  rect 3.3x3.3 smd: PAD(0,0)
  rect 3.3x3.3 smd far side paste-2539.97: PAD(0,0)
via 0,0 diameter 0.6 hole 0.3
via 1,0 diameter 0.6 hole 0.3
via 1,1 diameter 0.6 hole 0.3
via 0,1 diameter 0.6 hole 0.3
via -1,1 diameter 0.6 hole 0.3
via -1,0 diameter 0.6 hole 0.3
via -1,-1 diameter 0.6 hole 0.3
via 0,-1 diameter 0.6 hole 0.3
via 1,-1 diameter 0.6 hole 0.3
Top Overlay:
  circle w0.25: c-3.35,2.55 r0.125
  lines w0.2: -2.5,-2.25 -2.25,-2.5 ; -2.5,2.25 -2.25,2.5 ; 2.25,-2.5 2.5,-2.25 ; 2.25,2.5 2.5,2.25
Mechanical 1:
  circle w0.05: c-1.6,1.6 r0.3
  lines w0.05: -2.5,-1.865 -2.358,-1.865 ; -2.5,-1.635 -2.375,-1.635 ; -2.5,-1.365 -2.375,-1.365 ; -2.5,-1.135 -2.375,-1.135 ; -2.5,-0.865 -2.375,-0.865 ; -2.5,-0.635 -2.375,-0.635 ; -2.5,-0.365 -2.375,-0.365 ; -2.5,-0.135 -2.375,-0.135 ; -2.5,0.135 -2.375,0.135 ; -2.5,0.365 -2.375,0.365 ; -2.5,0.635 -2.375,0.635 ; -2.5,0.865 -2.375,0.865 ; -2.5,1.135 -2.375,1.135 ; -2.5,1.365 -2.375,1.365 ; -2.5,1.635 -2.375,1.635 ; -2.5,1.865 -2.358,1.865 ; -1.865,-2.358 -1.865,-2.5 ; -1.865,2.358 -1.865,2.5 ; -1.635,-2.375 -1.635,-2.5 ; -1.635,2.375 -1.635,2.5 ; -1.365,-2.375 -1.365,-2.5 ; -1.365,2.375 -1.365,2.5 ; -1.135,-2.375 -1.135,-2.5 ; -1.135,2.375 -1.135,2.5 ; -0.865,-2.375 -0.865,-2.5 ; -0.865,2.375 -0.865,2.5 ; -0.635,-2.375 -0.635,-2.5 ; -0.635,2.375 -0.635,2.5 ; -0.365,-2.375 -0.365,-2.5 ; -0.365,2.375 -0.365,2.5 ; -0.135,-2.375 -0.135,-2.5 ; -0.135,2.375 -0.135,2.5 ; 0.135,-2.375 0.135,-2.5 ; 0.135,2.375 0.135,2.5 ; 0.365,-2.375 0.365,-2.5 ; 0.365,2.375 0.365,2.5 ; 0.635,-2.375 0.635,-2.5 ; 0.635,2.375 0.635,2.5 ; 0.865,-2.375 0.865,-2.5 ; 0.865,2.375 0.865,2.5 ; 1.135,-2.375 1.135,-2.5 ; 1.135,2.375 1.135,2.5 ; 1.365,-2.375 1.365,-2.5 ; 1.365,2.375 1.365,2.5 ; 1.635,-2.375 1.635,-2.5 ; 1.635,2.375 1.635,2.5 ; 1.865,-2.358 1.865,-2.5 ; 1.865,2.358 1.865,2.5 ; 2.358,-1.865 2.5,-1.865 ; 2.358,1.865 2.5,1.865 ; 2.375,-1.635 2.5,-1.635 ; 2.375,-1.365 2.5,-1.365 ; 2.375,-1.135 2.5,-1.135 ; 2.375,-0.865 2.5,-0.865 ; 2.375,-0.635 2.5,-0.635 ; 2.375,-0.365 2.5,-0.365 ; 2.375,-0.135 2.5,-0.135 ; 2.375,0.135 2.5,0.135 ; 2.375,0.365 2.5,0.365 ; 2.375,0.635 2.5,0.635 ; 2.375,0.865 2.5,0.865 ; 2.375,1.135 2.5,1.135 ; 2.375,1.365 2.5,1.365 ; 2.375,1.635 2.5,1.635 ; -2.375,-1.848 -2.156,-1.758 ; -2.375,-1.848 -1.848,-2.375 ; -2.375,-1.848 -2.375,1.848 ; -2.375,1.848 -2.156,1.757 ; -2.375,1.848 -1.848,2.375 ; -2.156,-1.758 -1.758,-2.156 ; -2.156,-1.758 -2.156,1.757 ; -2.156,1.757 -1.758,2.156 ; -1.865,-2.5 -1.635,-2.5 ; -1.865,-2.5 -1.9,-2.5 -2.5,-1.9 -2.5,1.9 -1.9,2.5 -1.865,2.5 ; -1.865,2.5 -1.635,2.5 ; -1.848,-2.375 -1.758,-2.156 ; -1.848,-2.375 1.848,-2.375 ; -1.848,2.375 -1.758,2.156 ; -1.848,2.375 1.848,2.375 ; -1.758,-2.156 1.757,-2.156 ; -1.758,2.156 1.757,2.156 ; -1.635,-2.5 -1.365,-2.5 ; -1.635,2.5 -1.365,2.5 ; -1.365,-2.5 -1.135,-2.5 ; -1.365,2.5 -1.135,2.5 ; -1.135,-2.5 -0.865,-2.5 ; -1.135,2.5 -0.865,2.5 ; -0.865,-2.5 -0.635,-2.5 ; -0.865,2.5 -0.635,2.5 ; -0.635,-2.5 -0.365,-2.5 ; -0.635,2.5 -0.365,2.5 ; -0.365,-2.5 -0.135,-2.5 ; -0.365,2.5 -0.135,2.5 ; -0.135,-2.5 0.135,-2.5 ; -0.135,2.5 0.135,2.5 ; 0.135,-2.5 0.365,-2.5 ; 0.135,2.5 0.365,2.5 ; 0.365,-2.5 0.635,-2.5 ; 0.365,2.5 0.635,2.5 ; 0.635,-2.5 0.865,-2.5 ; 0.635,2.5 0.865,2.5 ; 0.865,-2.5 1.135,-2.5 ; 0.865,2.5 1.135,2.5 ; 1.135,-2.5 1.365,-2.5 ; 1.135,2.5 1.365,2.5 ; 1.365,-2.5 1.635,-2.5 ; 1.365,2.5 1.635,2.5 ; 1.635,-2.5 1.865,-2.5 ; 1.635,2.5 1.865,2.5 ; 1.757,-2.156 1.848,-2.375 ; 1.757,-2.156 2.156,-1.758 ; 1.757,2.156 1.848,2.375 ; 1.757,2.156 2.156,1.757 ; 1.848,-2.375 2.375,-1.848 ; 1.848,2.375 2.375,1.848 ; 1.865,-2.5 1.9,-2.5 2.5,-1.9 2.5,1.9 1.9,2.5 1.865,2.5 ; 2.156,-1.758 2.375,-1.848 ; 2.156,-1.758 2.156,1.757 ; 2.156,1.757 2.375,1.848 ; 2.375,-1.848 2.375,1.848
Mechanical 15:
  lines w0.05: -3.1,-3.1 -3.1,3.1 3.1,3.1 3.1,-3.1 -3.1,-3.1
  lines w0.1: -0.5,0 0.5,0 ; 0,-0.5 0,0.5
3D body "Analog_Devices_CP-32-3.STEP": height 0.85, standoff 0, extent -2.5,-2.5 2.5,2.5

## QFN-32_5.00x5.00mm_EP_3.10X3.10mm [mm] "QFN, 32-Leads, Body 5.00x5.00mm, Pitch 0.50mm, Thermal Pad 3.10x3.10mm, IPC Medium Density"
height 0.8
pads (34):
  rrect20% 0.6x0.25 smd: 1(-2.4,1.75) 2(-2.4,1.25) 3(-2.4,0.75) 4(-2.4,0.25) 5(-2.4,-0.25) 6(-2.4,-0.75) 7(-2.4,-1.25) 8(-2.4,-1.75) 17(2.4,-1.75) 18(2.4,-1.25) 19(2.4,-0.75) 20(2.4,-0.25) 21(2.4,0.25) 22(2.4,0.75) 23(2.4,1.25) 24(2.4,1.75)
  rrect20% 0.25x0.6 smd: 9(-1.75,-2.4) 10(-1.25,-2.4) 11(-0.75,-2.4) 12(-0.25,-2.4) 13(0.25,-2.4) 14(0.75,-2.4) 15(1.25,-2.4) 16(1.75,-2.4) 25(1.75,2.4) 26(1.25,2.4) 27(0.75,2.4) 28(0.25,2.4) 29(-0.25,2.4) 30(-0.75,2.4) 31(-1.25,2.4) 32(-1.75,2.4)
  rect 3.1x3.1 smd paste-2539.97: PAD(0,0)
  rect 3.1x3.1 smd far side paste-2539.97: PAD(0,0)
via 0,0 diameter 0.6 hole 0.3
via -1,-1 diameter 0.6 hole 0.3
via 0,-1 diameter 0.6 hole 0.3
via 1,-1 diameter 0.6 hole 0.3
via 1,0 diameter 0.6 hole 0.3
via 1,1 diameter 0.6 hole 0.3
via 0,1 diameter 0.6 hole 0.3
via -1,1 diameter 0.6 hole 0.3
via -1,0 diameter 0.6 hole 0.3
Top Overlay:
  circle w0.25: c-3.35,2.55 r0.125
  lines w0.2: -2.7,-2.275 -2.7,-2.7 -2.275,-2.7 ; -2.7,2.275 -2.7,2.7 -2.275,2.7 ; 2.275,-2.7 2.7,-2.7 2.7,-2.275 ; 2.275,2.7 2.7,2.7 2.7,2.275
Mechanical 1:
  circle w0.05: c-1.6,1.6 r0.2
  lines w0.05: -2.45,-1.835 -2.5,-1.835 -2.5,-1.665 -2.45,-1.665 ; -2.45,-1.335 -2.5,-1.335 -2.5,-1.165 -2.45,-1.165 ; -2.45,-0.835 -2.5,-0.835 -2.5,-0.665 -2.45,-0.665 ; -2.45,-0.335 -2.5,-0.335 -2.5,-0.165 -2.45,-0.165 ; -2.45,0.165 -2.5,0.165 -2.5,0.335 -2.45,0.335 ; -2.45,0.665 -2.5,0.665 -2.5,0.835 -2.45,0.835 ; -2.45,1.165 -2.5,1.165 -2.5,1.335 -2.45,1.335 ; -2.45,1.665 -2.5,1.665 -2.5,1.835 -2.45,1.835 ; -1.835,-2.45 -1.835,-2.5 -1.665,-2.5 -1.665,-2.45 ; -1.835,2.45 -1.835,2.5 -1.665,2.5 -1.665,2.45 ; -1.335,-2.45 -1.335,-2.5 -1.165,-2.5 -1.165,-2.45 ; -1.335,2.45 -1.335,2.5 -1.165,2.5 -1.165,2.45 ; -0.835,-2.45 -0.835,-2.5 -0.665,-2.5 -0.665,-2.45 ; -0.835,2.45 -0.835,2.5 -0.665,2.5 -0.665,2.45 ; -0.335,-2.45 -0.335,-2.5 -0.165,-2.5 -0.165,-2.45 ; -0.335,2.45 -0.335,2.5 -0.165,2.5 -0.165,2.45 ; 0.165,-2.45 0.165,-2.5 0.335,-2.5 0.335,-2.45 ; 0.165,2.45 0.165,2.5 0.335,2.5 0.335,2.45 ; 0.665,-2.45 0.665,-2.5 0.835,-2.5 0.835,-2.45 ; 0.665,2.45 0.665,2.5 0.835,2.5 0.835,2.45 ; 1.165,-2.45 1.165,-2.5 1.335,-2.5 1.335,-2.45 ; 1.165,2.45 1.165,2.5 1.335,2.5 1.335,2.45 ; 1.665,-2.45 1.665,-2.5 1.835,-2.5 1.835,-2.45 ; 1.665,2.45 1.665,2.5 1.835,2.5 1.835,2.45 ; 2.45,-1.835 2.5,-1.835 2.5,-1.665 2.45,-1.665 ; 2.45,-1.335 2.5,-1.335 2.5,-1.165 2.45,-1.165 ; 2.45,-0.835 2.5,-0.835 2.5,-0.665 2.45,-0.665 ; 2.45,-0.335 2.5,-0.335 2.5,-0.165 2.45,-0.165 ; 2.45,0.165 2.5,0.165 2.5,0.335 2.45,0.335 ; 2.45,0.665 2.5,0.665 2.5,0.835 2.45,0.835 ; 2.45,1.165 2.5,1.165 2.5,1.335 2.45,1.335 ; 2.45,1.665 2.5,1.665 2.5,1.835 2.45,1.835 ; -2.45,-2.45 -2.45,2.45 2.45,2.45 2.45,-2.45 -2.45,-2.45
Mechanical 15:
  lines w0.05: -3.1,-3.1 3.1,-3.1 3.1,3.1 -3.1,3.1 -3.1,-3.1
  lines w0.1: -0.5,0 0.5,0 ; 0,-0.5 0,0.5
3D body "QFN-32-1EP_5x5mm_P0.5mm_EP3.1x3.1mm.step": height 1.1, standoff 0, extent -2.5,-2.5 2.5,2.5

## QFN-32_5.00x5.00mm_EP_3.15X3.15mm [mm] "QFN, 32-Leads, Body 5.00x5.00mm, Pitch 0.50mm, Thermal Pad 3.15x3.15mm, IPC Medium Density"
height 0.8
pads (34):
  rrect20% 0.6x0.25 smd: 1(-2.4,1.75) 2(-2.4,1.25) 3(-2.4,0.75) 4(-2.4,0.25) 5(-2.4,-0.25) 6(-2.4,-0.75) 7(-2.4,-1.25) 8(-2.4,-1.75) 17(2.4,-1.75) 18(2.4,-1.25) 19(2.4,-0.75) 20(2.4,-0.25) 21(2.4,0.25) 22(2.4,0.75) 23(2.4,1.25) 24(2.4,1.75)
  rrect20% 0.25x0.6 smd: 9(-1.75,-2.4) 10(-1.25,-2.4) 11(-0.75,-2.4) 12(-0.25,-2.4) 13(0.25,-2.4) 14(0.75,-2.4) 15(1.25,-2.4) 16(1.75,-2.4) 25(1.75,2.4) 26(1.25,2.4) 27(0.75,2.4) 28(0.25,2.4) 29(-0.25,2.4) 30(-0.75,2.4) 31(-1.25,2.4) 32(-1.75,2.4)
  rect 3.15x3.15 smd paste-2539.97: PAD(0,0)
  rect 3.15x3.15 smd far side paste-2539.97: PAD(0,0)
via 0,0 diameter 0.6 hole 0.3
via -1,-1 diameter 0.6 hole 0.3
via 0,-1 diameter 0.6 hole 0.3
via 1,-1 diameter 0.6 hole 0.3
via 1,0 diameter 0.6 hole 0.3
via 1,1 diameter 0.6 hole 0.3
via 0,1 diameter 0.6 hole 0.3
via -1,1 diameter 0.6 hole 0.3
via -1,0 diameter 0.6 hole 0.3
Top Overlay:
  circle w0.25: c-3.35,2.55 r0.125
  lines w0.2: -2.7,-2.275 -2.7,-2.7 -2.275,-2.7 ; -2.7,2.275 -2.7,2.7 -2.275,2.7 ; 2.275,-2.7 2.7,-2.7 2.7,-2.275 ; 2.275,2.7 2.7,2.7 2.7,2.275
Mechanical 1:
  circle w0.05: c-1.6,1.6 r0.2
  lines w0.05: -2.45,-1.835 -2.5,-1.835 -2.5,-1.665 -2.45,-1.665 ; -2.45,-1.335 -2.5,-1.335 -2.5,-1.165 -2.45,-1.165 ; -2.45,-0.835 -2.5,-0.835 -2.5,-0.665 -2.45,-0.665 ; -2.45,-0.335 -2.5,-0.335 -2.5,-0.165 -2.45,-0.165 ; -2.45,0.165 -2.5,0.165 -2.5,0.335 -2.45,0.335 ; -2.45,0.665 -2.5,0.665 -2.5,0.835 -2.45,0.835 ; -2.45,1.165 -2.5,1.165 -2.5,1.335 -2.45,1.335 ; -2.45,1.665 -2.5,1.665 -2.5,1.835 -2.45,1.835 ; -1.835,-2.45 -1.835,-2.5 -1.665,-2.5 -1.665,-2.45 ; -1.835,2.45 -1.835,2.5 -1.665,2.5 -1.665,2.45 ; -1.335,-2.45 -1.335,-2.5 -1.165,-2.5 -1.165,-2.45 ; -1.335,2.45 -1.335,2.5 -1.165,2.5 -1.165,2.45 ; -0.835,-2.45 -0.835,-2.5 -0.665,-2.5 -0.665,-2.45 ; -0.835,2.45 -0.835,2.5 -0.665,2.5 -0.665,2.45 ; -0.335,-2.45 -0.335,-2.5 -0.165,-2.5 -0.165,-2.45 ; -0.335,2.45 -0.335,2.5 -0.165,2.5 -0.165,2.45 ; 0.165,-2.45 0.165,-2.5 0.335,-2.5 0.335,-2.45 ; 0.165,2.45 0.165,2.5 0.335,2.5 0.335,2.45 ; 0.665,-2.45 0.665,-2.5 0.835,-2.5 0.835,-2.45 ; 0.665,2.45 0.665,2.5 0.835,2.5 0.835,2.45 ; 1.165,-2.45 1.165,-2.5 1.335,-2.5 1.335,-2.45 ; 1.165,2.45 1.165,2.5 1.335,2.5 1.335,2.45 ; 1.665,-2.45 1.665,-2.5 1.835,-2.5 1.835,-2.45 ; 1.665,2.45 1.665,2.5 1.835,2.5 1.835,2.45 ; 2.45,-1.835 2.5,-1.835 2.5,-1.665 2.45,-1.665 ; 2.45,-1.335 2.5,-1.335 2.5,-1.165 2.45,-1.165 ; 2.45,-0.835 2.5,-0.835 2.5,-0.665 2.45,-0.665 ; 2.45,-0.335 2.5,-0.335 2.5,-0.165 2.45,-0.165 ; 2.45,0.165 2.5,0.165 2.5,0.335 2.45,0.335 ; 2.45,0.665 2.5,0.665 2.5,0.835 2.45,0.835 ; 2.45,1.165 2.5,1.165 2.5,1.335 2.45,1.335 ; 2.45,1.665 2.5,1.665 2.5,1.835 2.45,1.835 ; -2.45,-2.45 -2.45,2.45 2.45,2.45 2.45,-2.45 -2.45,-2.45
Mechanical 15:
  lines w0.05: -3.1,-3.1 3.1,-3.1 3.1,3.1 -3.1,3.1 -3.1,-3.1
  lines w0.1: -0.5,0 0.5,0 ; 0,-0.5 0,0.5
3D body "QFN-32-1EP_5x5mm_P0.5mm_EP3.1x3.1mm.step": height 1.1, standoff 0, extent -2.5,-2.5 2.5,2.5

## QFN-32_5.00x5.00mm_EP_3.30X3.30mm [mm] "QFN, 32-Leads, Body 5.00x5.00mm, Pitch 0.50mm, Thermal Pad 3.30x3.30mm, IPC Medium Density"
height 0.8
pads (34):
  rrect20% 0.6x0.25 smd: 1(-2.4,1.75) 2(-2.4,1.25) 3(-2.4,0.75) 4(-2.4,0.25) 5(-2.4,-0.25) 6(-2.4,-0.75) 7(-2.4,-1.25) 8(-2.4,-1.75) 17(2.4,-1.75) 18(2.4,-1.25) 19(2.4,-0.75) 20(2.4,-0.25) 21(2.4,0.25) 22(2.4,0.75) 23(2.4,1.25) 24(2.4,1.75)
  rrect20% 0.25x0.6 smd: 9(-1.75,-2.4) 10(-1.25,-2.4) 11(-0.75,-2.4) 12(-0.25,-2.4) 13(0.25,-2.4) 14(0.75,-2.4) 15(1.25,-2.4) 16(1.75,-2.4) 25(1.75,2.4) 26(1.25,2.4) 27(0.75,2.4) 28(0.25,2.4) 29(-0.25,2.4) 30(-0.75,2.4) 31(-1.25,2.4) 32(-1.75,2.4)
  rect 3.3x3.3 smd paste-2539.97: PAD(0,0)
  rect 3.3x3.3 smd far side paste-2539.97: PAD(0,0)
via 0,0 diameter 0.6 hole 0.3
via -1,-1 diameter 0.6 hole 0.3
via 0,-1 diameter 0.6 hole 0.3
via 1,-1 diameter 0.6 hole 0.3
via 1,0 diameter 0.6 hole 0.3
via 1,1 diameter 0.6 hole 0.3
via 0,1 diameter 0.6 hole 0.3
via -1,1 diameter 0.6 hole 0.3
via -1,0 diameter 0.6 hole 0.3
Top Overlay:
  circle w0.25: c-3.35,2.55 r0.125
  lines w0.2: -2.7,-2.275 -2.7,-2.7 -2.275,-2.7 ; -2.7,2.275 -2.7,2.7 -2.275,2.7 ; 2.275,-2.7 2.7,-2.7 2.7,-2.275 ; 2.275,2.7 2.7,2.7 2.7,2.275
Mechanical 1:
  circle w0.05: c-1.6,1.6 r0.2
  lines w0.05: -2.45,-1.835 -2.5,-1.835 -2.5,-1.665 -2.45,-1.665 ; -2.45,-1.335 -2.5,-1.335 -2.5,-1.165 -2.45,-1.165 ; -2.45,-0.835 -2.5,-0.835 -2.5,-0.665 -2.45,-0.665 ; -2.45,-0.335 -2.5,-0.335 -2.5,-0.165 -2.45,-0.165 ; -2.45,0.165 -2.5,0.165 -2.5,0.335 -2.45,0.335 ; -2.45,0.665 -2.5,0.665 -2.5,0.835 -2.45,0.835 ; -2.45,1.165 -2.5,1.165 -2.5,1.335 -2.45,1.335 ; -2.45,1.665 -2.5,1.665 -2.5,1.835 -2.45,1.835 ; -1.835,-2.45 -1.835,-2.5 -1.665,-2.5 -1.665,-2.45 ; -1.835,2.45 -1.835,2.5 -1.665,2.5 -1.665,2.45 ; -1.335,-2.45 -1.335,-2.5 -1.165,-2.5 -1.165,-2.45 ; -1.335,2.45 -1.335,2.5 -1.165,2.5 -1.165,2.45 ; -0.835,-2.45 -0.835,-2.5 -0.665,-2.5 -0.665,-2.45 ; -0.835,2.45 -0.835,2.5 -0.665,2.5 -0.665,2.45 ; -0.335,-2.45 -0.335,-2.5 -0.165,-2.5 -0.165,-2.45 ; -0.335,2.45 -0.335,2.5 -0.165,2.5 -0.165,2.45 ; 0.165,-2.45 0.165,-2.5 0.335,-2.5 0.335,-2.45 ; 0.165,2.45 0.165,2.5 0.335,2.5 0.335,2.45 ; 0.665,-2.45 0.665,-2.5 0.835,-2.5 0.835,-2.45 ; 0.665,2.45 0.665,2.5 0.835,2.5 0.835,2.45 ; 1.165,-2.45 1.165,-2.5 1.335,-2.5 1.335,-2.45 ; 1.165,2.45 1.165,2.5 1.335,2.5 1.335,2.45 ; 1.665,-2.45 1.665,-2.5 1.835,-2.5 1.835,-2.45 ; 1.665,2.45 1.665,2.5 1.835,2.5 1.835,2.45 ; 2.45,-1.835 2.5,-1.835 2.5,-1.665 2.45,-1.665 ; 2.45,-1.335 2.5,-1.335 2.5,-1.165 2.45,-1.165 ; 2.45,-0.835 2.5,-0.835 2.5,-0.665 2.45,-0.665 ; 2.45,-0.335 2.5,-0.335 2.5,-0.165 2.45,-0.165 ; 2.45,0.165 2.5,0.165 2.5,0.335 2.45,0.335 ; 2.45,0.665 2.5,0.665 2.5,0.835 2.45,0.835 ; 2.45,1.165 2.5,1.165 2.5,1.335 2.45,1.335 ; 2.45,1.665 2.5,1.665 2.5,1.835 2.45,1.835 ; -2.45,-2.45 -2.45,2.45 2.45,2.45 2.45,-2.45 -2.45,-2.45
Mechanical 15:
  lines w0.05: -3.1,-3.1 3.1,-3.1 3.1,3.1 -3.1,3.1 -3.1,-3.1
  lines w0.1: -0.5,0 0.5,0 ; 0,-0.5 0,0.5
3D body "QFN-32-1EP_5x5mm_P0.5mm_EP3.3x3.3mm.step": height 0.87, standoff 0, extent -2.5,-2.5 2.5,2.5

## QFN-40_6.00x6.00mm_EP_4.50x4.50mm [mm] "QFN, 40-Leads, Body 6.00x6.00mm, Pitch 0.50mm, Thermal Pad 4.50x4.50mm, IPC Medium Density"
height 1
pads (42):
  rrect20% 0.6x0.25 smd: 1(-2.9,2.25) 2(-2.9,1.75) 3(-2.9,1.25) 4(-2.9,0.75) 5(-2.9,0.25) 6(-2.9,-0.25) 7(-2.9,-0.75) 8(-2.9,-1.25) 9(-2.9,-1.75) 10(-2.9,-2.25) 21(2.9,-2.25) 22(2.9,-1.75) 23(2.9,-1.25) 24(2.9,-0.75) 25(2.9,-0.25) 26(2.9,0.25) 27(2.9,0.75) 28(2.9,1.25) 29(2.9,1.75) 30(2.9,2.25)
  rrect20% 0.25x0.6 smd: 11(-2.25,-2.9) 12(-1.75,-2.9) 13(-1.25,-2.9) 14(-0.75,-2.9) 15(-0.25,-2.9) 16(0.25,-2.9) 17(0.75,-2.9) 18(1.25,-2.9) 19(1.75,-2.9) 20(2.25,-2.9) 31(2.25,2.9) 32(1.75,2.9) 33(1.25,2.9) 34(0.75,2.9) 35(0.25,2.9) 36(-0.25,2.9) 37(-0.75,2.9) 38(-1.25,2.9) 39(-1.75,2.9) 40(-2.25,2.9)
  rect 4.5x4.5 smd: PAD(0,0)
  rect 4.5x4.5 smd far side paste-2539.97: PAD(0,0)
via -0.5,-0.5 diameter 0.6 hole 0.3
via 0.5,-0.5 diameter 0.6 hole 0.3
via 1.5,-0.5 diameter 0.6 hole 0.3
via 1.5,0.5 diameter 0.6 hole 0.3
via 0.5,0.5 diameter 0.6 hole 0.3
via -0.5,0.5 diameter 0.6 hole 0.3
via -1.5,0.5 diameter 0.6 hole 0.3
via -1.5,1.5 diameter 0.6 hole 0.3
via -0.5,1.5 diameter 0.6 hole 0.3
via 0.5,1.5 diameter 0.6 hole 0.3
via 1.5,1.5 diameter 0.6 hole 0.3
via -1.5,-0.5 diameter 0.6 hole 0.3
via -1.5,-1.5 diameter 0.6 hole 0.3
via -0.5,-1.5 diameter 0.6 hole 0.3
via 0.5,-1.5 diameter 0.6 hole 0.3
via 1.5,-1.5 diameter 0.6 hole 0.3
Top Overlay:
  circle w0.25: c-3.85,3.05 r0.125
  lines w0.2: -3.2,-2.775 -3.2,-3.2 -2.775,-3.2 ; -3.2,2.775 -3.2,3.2 -2.775,3.2 ; 2.775,-3.2 3.2,-3.2 3.2,-2.775 ; 2.775,3.2 3.2,3.2 3.2,2.775
Mechanical 1:
  circle w0.05: c-2.3,2.3 r0.25
  lines w0.05: -2.99,-2.365 -3,-2.365 -3,-2.135 -2.99,-2.135 ; -2.99,-1.865 -3,-1.865 -3,-1.635 -2.99,-1.635 ; -2.99,-1.365 -3,-1.365 -3,-1.135 -2.99,-1.135 ; -2.99,-0.865 -3,-0.865 -3,-0.635 -2.99,-0.635 ; -2.99,-0.365 -3,-0.365 -3,-0.135 -2.99,-0.135 ; -2.99,0.135 -3,0.135 -3,0.365 -2.99,0.365 ; -2.99,0.635 -3,0.635 -3,0.865 -2.99,0.865 ; -2.99,1.135 -3,1.135 -3,1.365 -2.99,1.365 ; -2.99,1.635 -3,1.635 -3,1.865 -2.99,1.865 ; -2.99,2.135 -3,2.135 -3,2.365 -2.99,2.365 ; -2.365,-2.99 -2.365,-3 -2.135,-3 -2.135,-2.99 ; -2.365,2.99 -2.365,3 -2.135,3 -2.135,2.99 ; -1.865,-2.99 -1.865,-3 -1.635,-3 -1.635,-2.99 ; -1.865,2.99 -1.865,3 -1.635,3 -1.635,2.99 ; -1.365,-2.99 -1.365,-3 -1.135,-3 -1.135,-2.99 ; -1.365,2.99 -1.365,3 -1.135,3 -1.135,2.99 ; -0.865,-2.99 -0.865,-3 -0.635,-3 -0.635,-2.99 ; -0.865,2.99 -0.865,3 -0.635,3 -0.635,2.99 ; -0.365,-2.99 -0.365,-3 -0.135,-3 -0.135,-2.99 ; -0.365,2.99 -0.365,3 -0.135,3 -0.135,2.99 ; 0.135,-2.99 0.135,-3 0.365,-3 0.365,-2.99 ; 0.135,2.99 0.135,3 0.365,3 0.365,2.99 ; 0.635,-2.99 0.635,-3 0.865,-3 0.865,-2.99 ; 0.635,2.99 0.635,3 0.865,3 0.865,2.99 ; 1.135,-2.99 1.135,-3 1.365,-3 1.365,-2.99 ; 1.135,2.99 1.135,3 1.365,3 1.365,2.99 ; 1.635,-2.99 1.635,-3 1.865,-3 1.865,-2.99 ; 1.635,2.99 1.635,3 1.865,3 1.865,2.99 ; 2.135,-2.99 2.135,-3 2.365,-3 2.365,-2.99 ; 2.135,2.99 2.135,3 2.365,3 2.365,2.99 ; 2.99,-2.365 3,-2.365 3,-2.135 2.99,-2.135 ; 2.99,-1.865 3,-1.865 3,-1.635 2.99,-1.635 ; 2.99,-1.365 3,-1.365 3,-1.135 2.99,-1.135 ; 2.99,-0.865 3,-0.865 3,-0.635 2.99,-0.635 ; 2.99,-0.365 3,-0.365 3,-0.135 2.99,-0.135 ; 2.99,0.135 3,0.135 3,0.365 2.99,0.365 ; 2.99,0.635 3,0.635 3,0.865 2.99,0.865 ; 2.99,1.135 3,1.135 3,1.365 2.99,1.365 ; 2.99,1.635 3,1.635 3,1.865 2.99,1.865 ; 2.99,2.135 3,2.135 3,2.365 2.99,2.365 ; -2.99,-2.89 ccw(c-2.89,-2.89) -2.89,-2.99 2.89,-2.99 ccw(c2.89,-2.89) 2.99,-2.89 2.99,2.89 ccw(c2.89,2.89) 2.89,2.99 -2.89,2.99 ccw(c-2.89,2.89) -2.99,2.89 -2.99,-2.89
Mechanical 15:
  lines w0.05: -3.6,-3.6 -3.6,3.6 3.6,3.6 3.6,-3.6 -3.6,-3.6
  lines w0.1: -0.5,0 0.5,0 ; 0,-0.5 0,0.5
3D body "QFN-40-1EP_6x6mm_P0.5mm_EP4.6x4.6mm.step": height 1, standoff 0, extent -3,-3 3,3

## QFN-56_7.00x7.00mm_EP_3.20x3.20mm [mm] "QFN, 56-Leads, Body 7.00x7.00mm, Pitch 0.40mm, Thermal Pad 3.20x3.20mm, IPC Medium Density"
height 0.9
pads (57):
  rrect20% 0.875x0.2 smd: 1(-3.437,2.6) 2(-3.437,2.2) 3(-3.437,1.8) 4(-3.437,1.4) 5(-3.437,1) 6(-3.437,0.6) 7(-3.437,0.2) 8(-3.437,-0.2) 9(-3.437,-0.6) 10(-3.437,-1) 11(-3.437,-1.4) 12(-3.437,-1.8) 13(-3.437,-2.2) 14(-3.437,-2.6) 29(3.438,-2.6) 30(3.438,-2.2) 31(3.438,-1.8) 32(3.438,-1.4) 33(3.438,-1) 34(3.438,-0.6) 35(3.438,-0.2) 36(3.438,0.2) 37(3.438,0.6) 38(3.438,1) 39(3.438,1.4) 40(3.438,1.8) 41(3.438,2.2) 42(3.438,2.6)
  rrect20% 0.2x0.875 smd: 15(-2.6,-3.438) 16(-2.2,-3.438) 17(-1.8,-3.438) 18(-1.4,-3.438) 19(-1,-3.438) 20(-0.6,-3.438) 21(-0.2,-3.438) 22(0.2,-3.438) 23(0.6,-3.438) 24(1,-3.438) 25(1.4,-3.438) 26(1.8,-3.438) 27(2.2,-3.438) 28(2.6,-3.438) 43(2.6,3.437) 44(2.2,3.437) 45(1.8,3.437) 46(1.4,3.437) 47(1,3.437) 48(0.6,3.437) 49(0.2,3.437) 50(-0.2,3.437) 51(-0.6,3.437) 52(-1,3.437) 53(-1.4,3.437) 54(-1.8,3.437) 55(-2.2,3.437) 56(-2.6,3.437)
  rect 3.2x3.2 smd: PAD(0,0)
via 1,1 diameter 0.6 hole 0.3
via 1,0 diameter 0.6 hole 0.3
via 1,-1 diameter 0.6 hole 0.3
via 0,-1 diameter 0.6 hole 0.3
via -1,-1 diameter 0.6 hole 0.3
via -1,0 diameter 0.6 hole 0.3
via -1,1 diameter 0.6 hole 0.3
via 0,1 diameter 0.6 hole 0.3
via 0,0 diameter 0.6 hole 0.3
Top Overlay:
  circle w0.25: c-4.3,3.5 r0.125
  lines w0.2: -3.65,-3.1 -3.65,-3.65 -3.1,-3.65 ; -3.65,3.1 -3.65,3.65 -3.1,3.65 ; 3.1,-3.65 3.65,-3.65 3.65,-3.1 ; 3.1,3.65 3.65,3.65 3.65,3.1
Mechanical 1:
  drawing of 173 lines, arcs and shapes, not listed
Mechanical 15:
  lines w0.05: -4.075,-4.075 4.075,-4.075 4.075,4.075 -4.075,4.075 -4.075,-4.075
  lines w0.1: -0.5,0 0.5,0 ; 0,-0.5 0,0.5
3D body "QFN-56-1EP_7x7mm_P0.4mm_EP3.2x3.2mm.STEP": height 0.92, standoff 0, extent -3.5,-3.5 3.5,3.5